# Altium footprint library SnapEDApcb.PcbLib: 1 footprints
Each footprint in its own frame and in the unit in brackets; x right, y up, seen from the top. Pads: shape width x height; smd on the part's side, far side on the other; paste and mask are expansions set on the pad; w line width, h text height; cw(c..) or ccw(c..) is an arc to the next point about the centre after c.
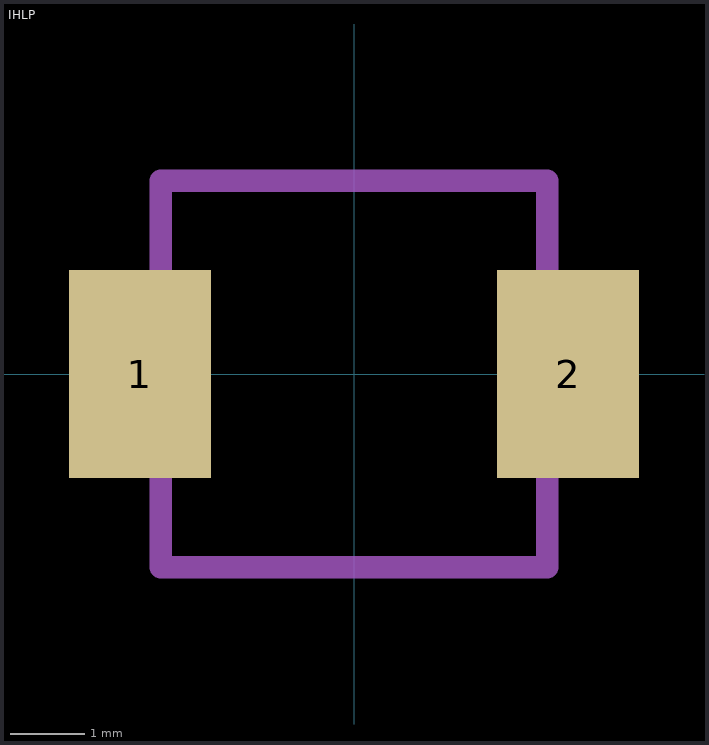
[diagram p0: the footprint, top view; thin cyan lines are the x and y axes]

## IHLP [mil]
pads (2):
  rect 75x110 smd: 1(-113,0) 2(113,0)
Top Overlay:
  region: 130,-50 108,-50 108,50 130,50
  region: -108,-50 -130,-50 -130,50 -108,50
Mechanical 13:
  lines w12: -102,-102 -102,102 102,102 102,-102 -102,-102